# Altium schematic symbol library Custom Magnetic.SchLib: 29 symbols
Pins are listed as number, name and electrical type; pins without a type are passive.

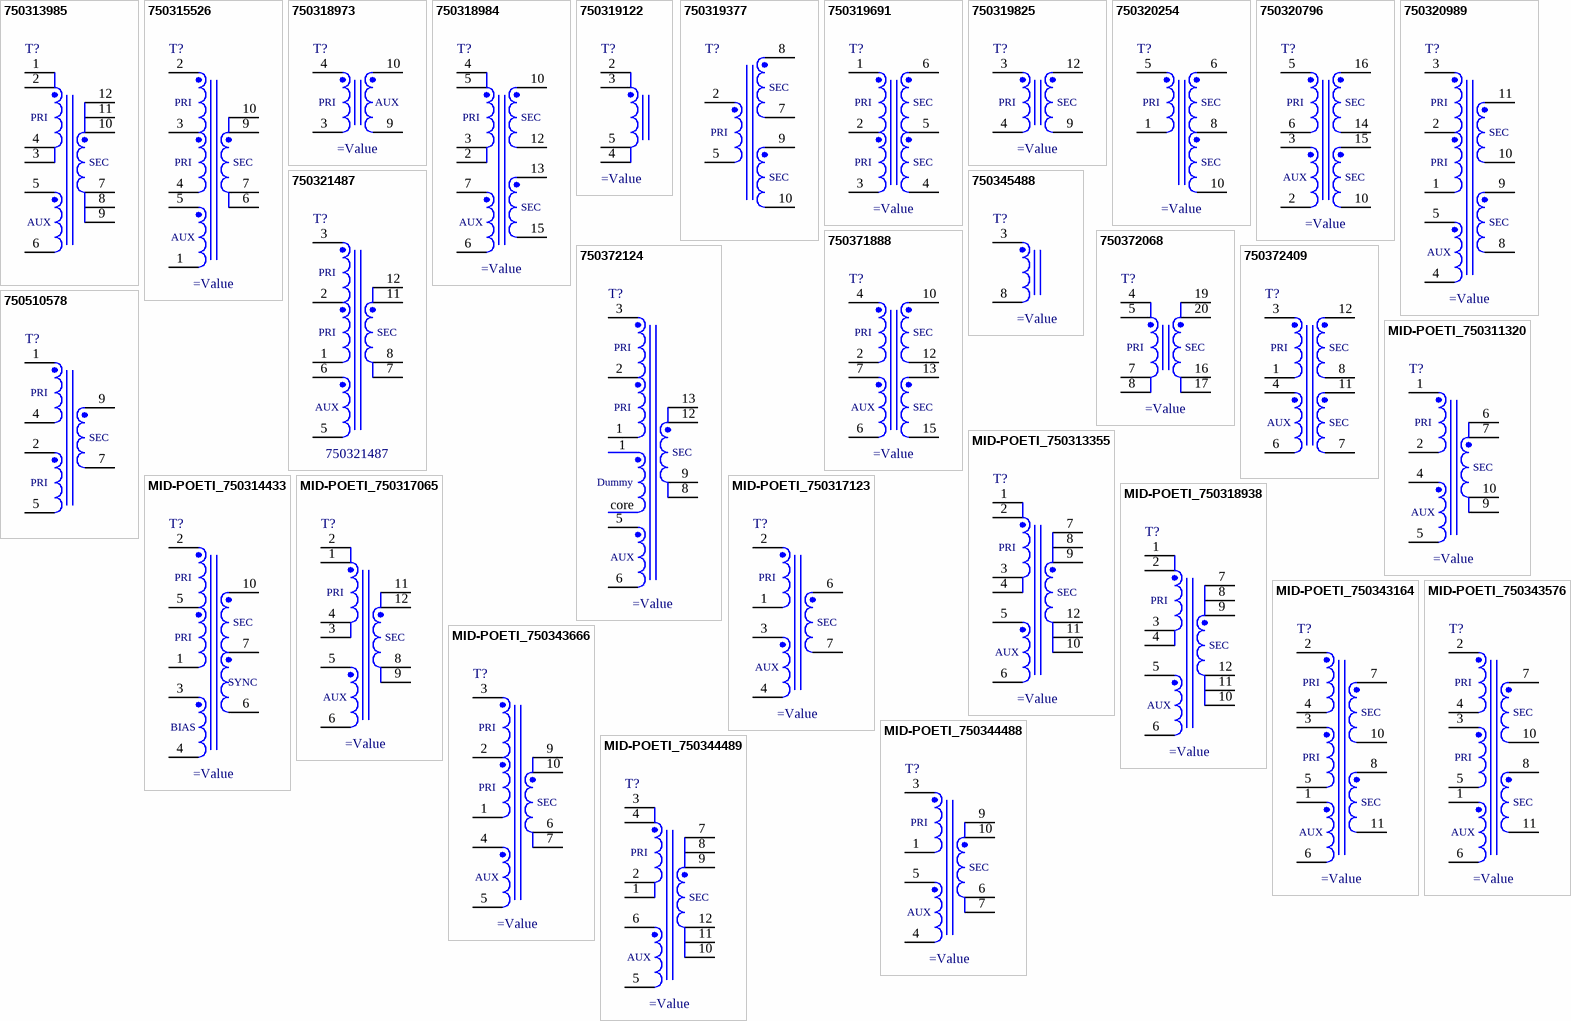
[diagram p0: symbols 750313985 to MID-POETI_750344489]

## 750313985
designator T?
pins: 1, 2, 3, 4, 5, 6, 7, 8, 9, 10, 11, 12
text: PRI; SEC; AUX

## 750315526
designator T?
pins: 1, 2, 3, 4, 5, 6, 7, 9, 10
text: PRI; SEC; AUX

## 750318973
designator T?
pins: 3, 4, 9, 10
text: PRI; AUX

## 750318984
designator T?
pins: 2, 3, 4, 5, 6, 7, 10, 12, 13, 15
text: PRI; SEC; AUX

## 750319122
designator T?
pins: 2, 3, 4, 5

## 750319377
designator T?
pins: 2, 5, 7, 8, 9, 10
text: SEC; PRI

## 750319691
designator T?
pins: 1, 2, 3, 4, 5, 6
text: PRI; SEC

## 750319825
designator T?
pins: 3, 4, 9, 12
text: PRI; SEC

## 750320254
designator T?
pins: 1, 5, 6, 8, 10
text: PRI; SEC

## 750320796
designator T?
pins: 2, 3, 5, 6, 10, 14, 15, 16
text: PRI; SEC; AUX

## 750320989
designator T?
pins: 1, 2, 3, 4, 5, 8, 9, 10, 11
text: PRI; SEC; AUX

## 750321487
designator T?
pins: 1, 2, 3, 5, 6, 7, 8, 11, 12
text: PRI; SEC; AUX

## 750345488
designator T?
pins: 3, 8

## 750371888
designator T?
pins: 2, 4, 6, 7, 10, 12, 13, 15
text: PRI; SEC; AUX

## 750372068
designator T?
pins: 4, 5, 7, 8, 16, 17, 19, 20
text: PRI; SEC

## 750372124
designator T?
pins: 1, 2, 3, 5, 6, 8, 9, 12, 13
text: PRI; SEC; Dummy; core; AUX

## 750372409
designator T?
pins: 1, 3, 4, 6, 7, 8, 11, 12
text: PRI; SEC; AUX

## 750510578
designator T?
pins: 1, 2, 4, 5, 7, 9
text: PRI; SEC

## MID-POETI_750311320
designator T?
pins: 1, 2, 4, 5, 6, 7, 9, 10
text: PRI; SEC; AUX

## MID-POETI_750313355
designator T?
pins: 1, 2, 3, 4, 5, 6, 7, 8, 9, 10, 11, 12
text: PRI; SEC; AUX

## MID-POETI_750314433
designator T?
pins: 1, 2, 3, 4, 5, 6, 7, 10
text: PRI; SEC; SYNC; BIAS

## MID-POETI_750317065
designator T?
pins: 1, 2, 3, 4, 5, 6, 8, 9, 11, 12
text: PRI; SEC; AUX

## MID-POETI_750317123
designator T?
pins: 1, 2, 3, 4, 6, 7
text: PRI; SEC; AUX

## MID-POETI_750318938
designator T?
pins: 1, 2, 3, 4, 5, 6, 7, 8, 9, 10, 11, 12
text: PRI; SEC; AUX

## MID-POETI_750343164
designator T?
pins: 1, 2, 3, 4, 5, 6, 7, 8, 10, 11
text: PRI; SEC; AUX

## MID-POETI_750343576
designator T?
pins: 1, 2, 3, 4, 5, 6, 7, 8, 10, 11
text: PRI; SEC; AUX

## MID-POETI_750343666
designator T?
pins: 1, 2, 3, 4, 5, 6, 7, 9, 10
text: PRI; SEC; AUX

## MID-POETI_750344488
designator T?
pins: 1, 3, 4, 5, 6, 7, 9, 10
text: PRI; SEC; AUX

## MID-POETI_750344489
designator T?
pins: 1, 2, 3, 4, 5, 6, 7, 8, 9, 10, 11, 12
text: PRI; SEC; AUX